# Altium footprint library SRU1048.PcbLib: 1 footprints
Each footprint in its own frame and in the unit in brackets; x right, y up, seen from the top. Pads: shape width x height; smd on the part's side, far side on the other; paste and mask are expansions set on the pad; w line width, h text height; cw(c..) or ccw(c..) is an arc to the next point about the centre after c.
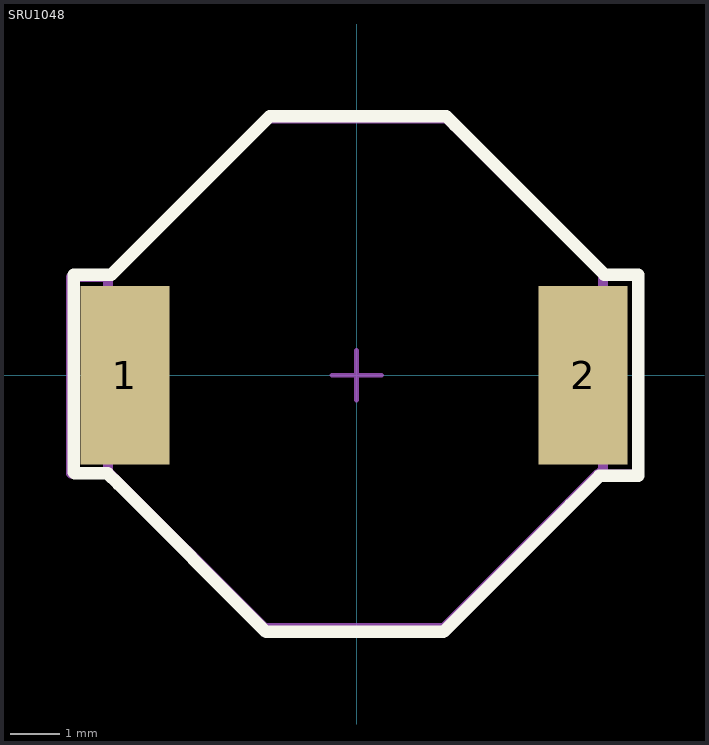
[diagram p0: the footprint, top view; thin cyan lines are the x and y axes]

## SRU1048 [mm] "Chip Inductor, 2-Leads, Body 10.80x3.60mm, IPC Medium Density"
height 4.8
pads (2):
  rect 1.8x3.6 smd: 1(-4.68,0) 2(4.572,0)
Top Overlay:
  lines w0.254: -5.715,-1.956 -5.69,-1.981 -5.131,-1.981 -5.029,-1.981 -4.813,-2.197 -1.829,-5.182 1.753,-5.182 4.318,-2.616 4.902,-2.032 5.105,-2.032 5.41,-2.032 5.69,-2.032 5.69,2.032 5.004,2.032 1.981,5.055 1.803,5.232 -1.753,5.232 -4.318,2.667 -4.953,2.032 -5.715,2.032 -5.715,-1.778 -5.715,-1.956
Mechanical 13:
  lines w0.2: -5.019,-1.941 -5.019,-1.724 -5.019,1.876 -5.019,1.966 -1.803,5.182 1.854,5.182 4.978,2.057 4.978,-1.905 1.778,-5.105 -1.854,-5.105 -5.019,-1.941
Mechanical 15:
  lines w0.1: -0.5,0 0.5,0 ; 0,-0.5 0,0.5
  lines w0.2: -5.766,-1.981 -5.766,-1.651 -5.766,1.981 -4.978,1.981 -1.778,5.182 1.676,5.182 1.829,5.182 5.004,2.007 5.664,2.007 5.664,-2.007 4.851,-2.007 1.702,-5.156 -1.676,-5.156 -1.854,-5.156 -5.029,-1.981 -5.766,-1.981
Mechanical 17:
  text "'.Designator'" at -3.175,-0.127 h0.64
Mechanical 19:
  text "'.Comment'" at -2.286,-0.127 h0.64
3D body "70277190.stp": height 5.1, standoff 0.3, extent -5,-5 5,5
3D body: height 4.8, standoff 0, extent 3.672,-1.8 5.472,1.8
3D body: height 4.8, standoff 0, extent -5.599,-1.778 -3.799,1.822